# Altium footprint library PcbLib1_HMI3D.PcbLib: 27 footprints (part 2 of 2)
Each footprint in its own frame and in the unit in brackets; x right, y up, seen from the top. Pads: shape width x height; smd on the part's side, far side on the other; paste and mask are expansions set on the pad; w line width, h text height; cw(c..) or ccw(c..) is an arc to the next point about the centre after c.
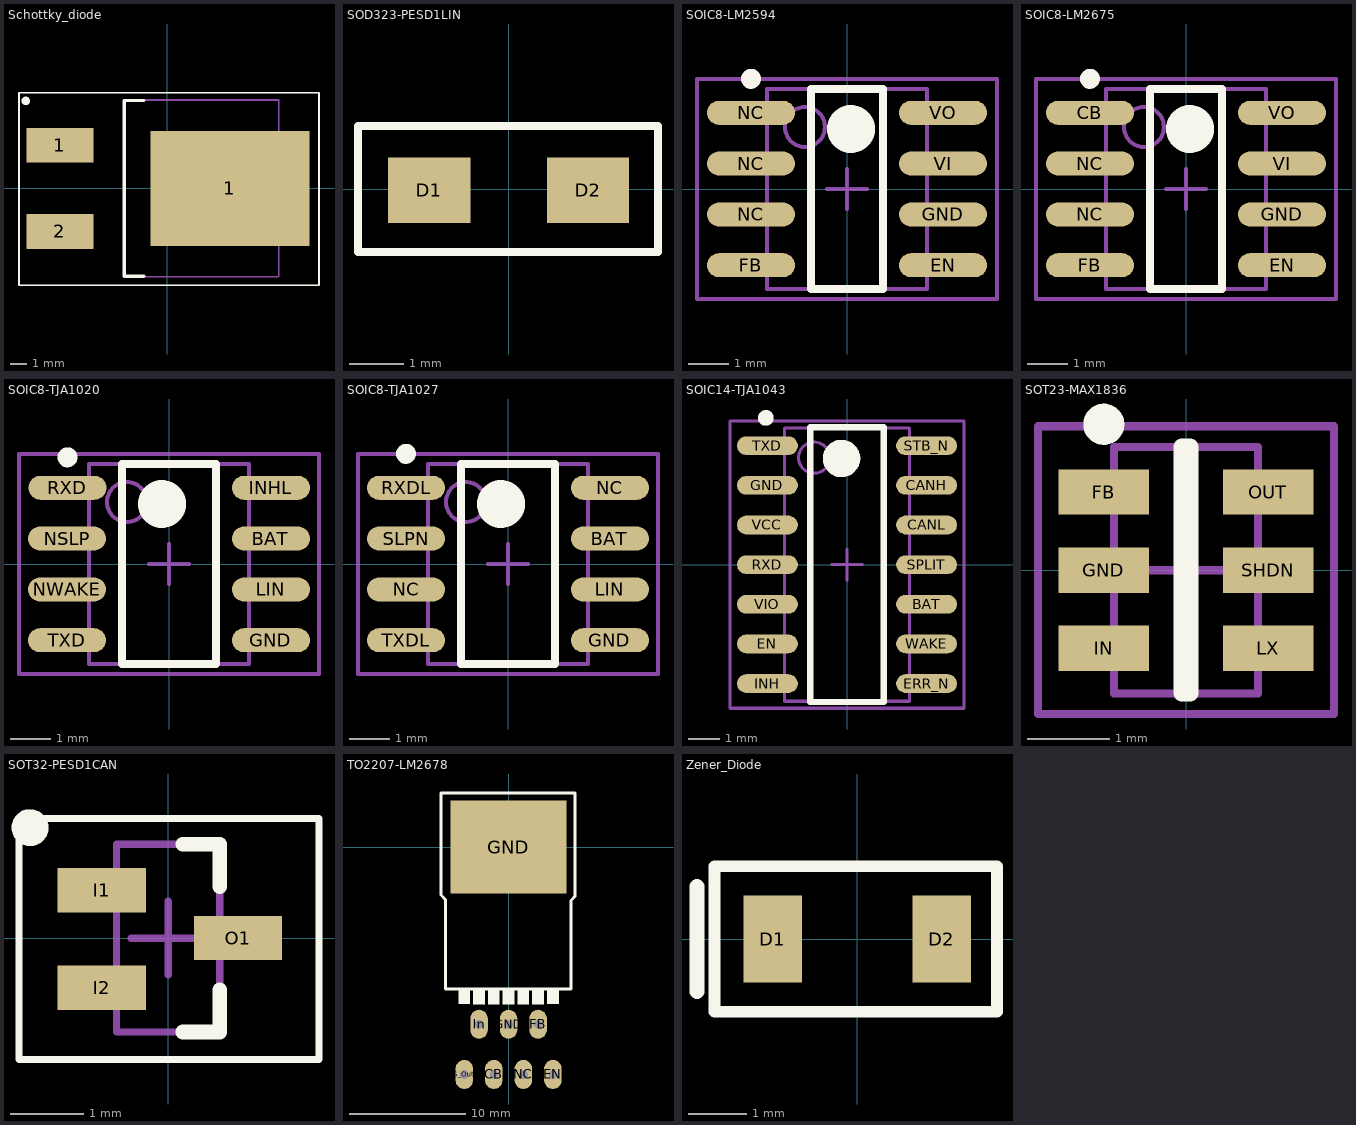
[diagram p1: the footprints below, top view; thin cyan lines are the x and y axes]

## Schottky_diode [mm] "D2-PAK, 3-Pads, Body 9,1x10,4mm (max), IPC Medium Density"
height 4.83
pads (3):
  rect 3.95x2.05 smd: 1(-6.35,2.55) 2(-6.35,-2.55)
  rect 9.4x6.8 smd: 1(3.7,0)
Top Overlay:
  circle w0.25: c-8.375,5.175 r0.125
  lines w0.1: -8.775,-5.725 -8.775,5.65 8.975,5.65 8.975,-5.725 -8.775,-5.725
  lines w0.2: -1.4,-5.2 -2.55,-5.2 -2.55,5.2 -1.4,5.2
Mechanical 13:
  lines w0.1: -2.55,-5.225 -2.55,5.225 6.59,5.225 6.59,-5.225 -2.55,-5.225
Mechanical 15:
  lines w0.1: -0.5,0 0.5,0 ; 0,-0.5 0,0.5
3D body: height 4.83, standoff 0.36, extent -2.55,-5.225 6.59,5.225

## SOD323-PESD1LIN [mm]
pads (2):
  rect 1.5x1.2 smd: D1(-1.45,-0.025) D2(1.45,-0.025)
Top Overlay:
  lines w0.15: -2.75,-1.15 -2.75,1.15 2.725,1.15 2.725,-1.15 -2.75,-1.15
3D body: height 1.3, standoff 0.5, extent -1.35,-0.9 1.35,0.9

## SOIC8-LM2594 [mm] "SOIC, 8-Leads, Body 5,0x4,0mm (max), Pitch 1,27mm, IPC Medium Density"
height 1.75
pads (8):
  oval 2.2x0.6 smd: EN(2.4,-1.905) FB(-2.4,-1.905) GND(2.4,-0.635) NC(-2.4,-0.635) NC(-2.4,0.635) NC(-2.4,1.905) VI(2.4,0.635) VO(2.4,1.905)
Top Overlay:
  circle w0.6: c0.1,1.5 r0.3
  circle w0.25: c-2.4,2.755 r0.125
  lines w0.2: -0.9,-2.5 0.9,-2.5 0.9,2.5 -0.9,2.5 -0.9,-2.5
Mechanical 13:
  circle w0.1: c-1.05,1.55 r0.5
  lines w0.1: -2,-2.5 2,-2.5 2,2.5 -2,2.5 -2,-2.5
Mechanical 15:
  lines w0.1: -0.5,0 0.5,0 ; 0,-0.5 0,0.5 ; -3.75,-2.75 -3.75,2.75 3.75,2.75 3.75,-2.75 -3.75,-2.75
3D body: height 1.75, standoff 0.1, extent -2,-2.5 2,2.5

## SOIC8-LM2675 [mm] "SOIC, 8-Leads, Body 5,0x4,0mm (max), Pitch 1,27mm, IPC Medium Density"
height 1.75
pads (8):
  oval 2.2x0.6 smd: CB(-2.4,1.905) EN(2.4,-1.905) FB(-2.4,-1.905) GND(2.4,-0.635) NC(-2.4,-0.635) NC(-2.4,0.635) VI(2.4,0.635) VO(2.4,1.905)
Top Overlay:
  circle w0.6: c0.1,1.5 r0.3
  circle w0.25: c-2.4,2.755 r0.125
  lines w0.2: -0.9,-2.5 0.9,-2.5 0.9,2.5 -0.9,2.5 -0.9,-2.5
Mechanical 13:
  circle w0.1: c-1.05,1.55 r0.5
  lines w0.1: -2,-2.5 2,-2.5 2,2.5 -2,2.5 -2,-2.5
Mechanical 15:
  lines w0.1: -0.5,0 0.5,0 ; 0,-0.5 0,0.5 ; -3.75,-2.75 3.75,-2.75 3.75,2.75 -3.75,2.75 -3.75,-2.75
3D body: height 1.75, standoff 0.1, extent -2,-2.5 2,2.5

## SOIC8-TJA1020 [mm] "SOIC, 8-Leads, Body 5,0x4,0mm (max), Pitch 1,27mm, IPC Medium Density"
height 1.75
pads (8):
  oval 1.95x0.6 smd: BAT(2.55,0.635) GND(2.55,-1.905) INHL(2.55,1.905) LIN(2.55,-0.635) NSLP(-2.55,0.635) NWAKE(-2.55,-0.635) RXD(-2.54,1.905) TXD(-2.55,-1.905)
Top Overlay:
  circle w0.6: c-0.175,1.5 r0.3
  circle w0.25: c-2.538,2.667 r0.125
  lines w0.2: -1.175,-2.5 1.175,-2.5 1.175,2.5 -1.175,2.5 -1.175,-2.5
Mechanical 13:
  circle w0.1: c-1.05,1.55 r0.5
  lines w0.1: -2,-2.5 2,-2.5 2,2.5 -2,2.5 -2,-2.5
Mechanical 15:
  lines w0.1: -0.5,0 0.5,0 ; 0,-0.5 0,0.5 ; -3.75,-2.75 3.75,-2.75 3.75,2.75 -3.75,2.75 -3.75,-2.75
3D body: height 1.75, standoff 0.1, extent -2,-2.5 2,2.5

## SOIC8-TJA1027 [mm] "SOIC, 8-Leads, Body 5,0x4,0mm (max), Pitch 1,27mm, IPC Medium Density"
height 1.75
pads (8):
  oval 1.95x0.6 smd: BAT(2.55,0.635) GND(2.55,-1.905) LIN(2.55,-0.635) NC(-2.55,-0.635) NC(2.55,1.905) RXDL(-2.55,1.905) SLPN(-2.55,0.635) TXDL(-2.55,-1.905)
Top Overlay:
  circle w0.25: c-2.55,2.755 r0.125
  circle w0.6: c-0.175,1.5 r0.3
  lines w0.2: -1.175,-2.5 -1.175,2.5 1.175,2.5 1.175,-2.5 -1.175,-2.5
Mechanical 13:
  circle w0.1: c-1.05,1.55 r0.5
  lines w0.1: -2,-2.5 -2,2.5 2,2.5 2,-2.5 -2,-2.5
Mechanical 15:
  lines w0.1: -0.5,0 0.5,0 ; 0,-0.5 0,0.5 ; -3.75,-2.75 -3.75,2.75 3.75,2.75 3.75,-2.75 -3.75,-2.75
3D body: height 1.75, standoff 0.1, extent -2,-2.5 2,2.5

## SOIC14-TJA1043 [mm] "SOIC, 14-Leads, Body 8,8x4,0mm (max), Pitch 1,27mm, IPC Medium Density"
height 1.75
pads (14):
  oval 1.95x0.6 smd: BAT(2.55,-1.27) CANH(2.55,2.54) CANL(2.55,1.27) EN(-2.55,-2.54) ERR_N(2.55,-3.81) GND(-2.55,2.54) INH(-2.55,-3.81) RXD(-2.55,0) SPLIT(2.55,0) STB_N(2.55,3.81) TXD(-2.55,3.81) VCC(-2.55,1.27) VIO(-2.55,-1.27) WAKE(2.55,-2.54)
Top Overlay:
  circle w0.25: c-2.6,4.7 r0.125
  circle w0.6: c-0.175,3.4 r0.3
  lines w0.2: -1.175,-4.4 -1.175,4.4 1.175,4.4 1.175,-4.4 -1.175,-4.4
Mechanical 13:
  circle w0.1: c-1.05,3.425 r0.5
  lines w0.1: -2,-4.375 -2,4.375 2,4.375 2,-4.375 -2,-4.375
Mechanical 15:
  lines w0.1: -0.5,0 0.5,0 ; 0,-0.5 0,0.5 ; -3.75,-4.6 -3.75,4.6 3.75,4.6 3.75,-4.6 -3.75,-4.6
3D body: height 1.75, standoff 0.1, extent -2,-4.375 2,4.375

## SOT23-MAX1836 [mm] "SOT23, 6-Leads, Body 3,0x2,6mm (max), Pitch 0,95mm, IPC Medium Density"
height 1.45
pads (6):
  rect 1.1x0.55 smd: FB(-1,0.95) GND(-1,0) IN(-1,-0.95) LX(1,-0.95) OUT(1,0.95) SHDN(1,0)
Top Overlay:
  circle w0.25: c-1,1.775 r0.125
  lines w0.2: -0.05,-1.5 -0.05,1.5 0.05,1.5 0.05,-1.5 -0.05,-1.5
Mechanical 13:
  lines w0.1: -0.875,-1.5 0.875,-1.5 0.875,1.5 -0.875,1.5 -0.875,-1.5
Mechanical 15:
  lines w0.1: -0.5,0 0.5,0 ; 0,-0.5 0,0.5 ; -1.8,-1.75 1.8,-1.75 1.8,1.75 -1.8,1.75 -1.8,-1.75
3D body: height 1.45, standoff 0.05, extent -0.875,-1.5 0.875,1.5

## SOT32-PESD1CAN [mm] "SOT23, 3-Leads, Body 3,0x2,5mm (max), Pitch 0,95mm, IPC Medium Density"
height 1.1
pads (3):
  rect 1.2x0.6 smd: I1(-0.9,0.65) I2(-0.9,-0.675) O1(0.95,0)
Top Overlay:
  circle w0.25: c-1.875,1.5 r0.125
  lines w0.1: -2.025,-1.65 -2.025,1.625 2.05,1.625 2.05,-1.65 -2.025,-1.65
  lines w0.2: 0.2,-1.275 0.7,-1.275 0.7,-0.7 ; 0.2,1.275 0.7,1.275 0.7,0.7
Mechanical 13:
  lines w0.1: -0.7,-1.275 -0.7,1.275 0.7,1.275 0.7,-1.275 -0.7,-1.275
Mechanical 15:
  lines w0.1: -0.5,0 0.5,0 ; 0,-0.5 0,0.5
3D body: height 1.1, standoff 0.09, extent -0.7,-1.275 0.7,1.275

## TO2207-LM2678 [mm]
pads (8):
  oval 1.5x2.5 hole 0.762: CB(-1.27,-19.558) EN(3.81,-19.558) FB(2.54,-15.24) GND(0,-15.24) In(-2.54,-15.24) NC(1.27,-19.558) S_Out(-3.81,-19.558)
  rect 10x8 smd: GND(0,0)
Top Overlay:
  rectangle: 3.302,-13.5 4.318,-12.192
  rectangle: 0.762,-13.525 1.778,-12.192
  rectangle: -4.318,-13.5 -3.302,-12.192
  rectangle: -1.778,-13.525 -0.762,-12.192
  rectangle: -3.048,-13.525 -2.032,-12.192
  rectangle: -0.508,-13.525 0.508,-12.192
  rectangle: 2.032,-13.525 3.048,-12.192
  lines w0.254: -5.41,-12.065 -5.41,-4.521 ; -5.825,-4.125 -5.825,-0.931 -5.825,0.935 -5.825,2.015 -5.825,4.675 5.725,4.675 5.725,1.356 5.725,-4.225 5.359,-4.591 5.359,-12.192 -5.41,-12.192 -5.41,-9.455 -5.41,-4.54 -5.825,-4.125
3D body: height 1.3, standoff 0.1, extent -5.461,-3.302 5.334,3.302
3D body: height 4.6, standoff 0.5, extent -5.461,-12.319 5.334,-3.175

## Zener_Diode [mm] "http://www.mouser.com/ds/2/115/BZT52HC2V4WF%20-%20BZT52HC47WF-948206.pdf"
pads (2):
  rect 1x1.5 smd: D1(-1.45,0) D2(1.45,0)
Top Overlay:
  lines w0.2: -2.45,-1.25 -2.45,0.25 -2.45,1.25 2.4,1.25 2.4,-1.25 -2.45,-1.25
  lines w0.254: -2.75,-0.9 -2.75,0.9
3D body: height 1, standoff 0, extent -1.5,-1 1.5,1